# EAGLE library part TLC2272 (library op-amp)
OP-AMP - LinCMOS
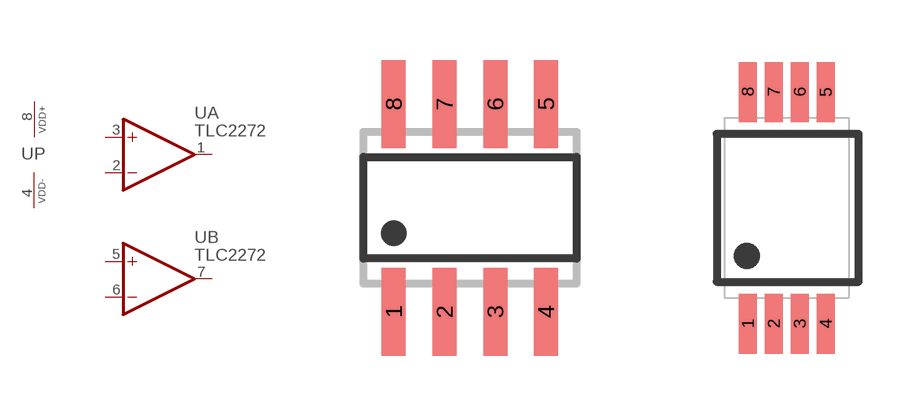
[diagram p92: symbol with the pads of SO08; footprints SO08, TSSOP8]

Designator prefix U; gates A=OPAMP_NV B=OPAMP_NV P=PWR_VDD+-

## TLC2272D  [SO08]
1  A:OUT  out
2  A:-IN  in
3  A:+IN  in
4  P:VDD-  pwr
5  B:+IN  in
6  B:-IN  in
7  B:OUT  out
8  P:VDD+  pwr

## TLC2272PW  [TSSOP8]
Pads as for SO08

## TLC2272P  [DIL08]
Pads as for SO08

## Footprint SO08 (pad centres in mm)
SMALL OUTLINE INTEGRATED CIRCUIT body 3.9 mm/JEDEC MS-012AA
smd 0.6 x 2.2: 1 -1.905,-2.6; 2 -0.635,-2.6; 3 0.635,-2.6; 4 1.905,-2.6; 5 1.905,2.6; 6 0.635,2.6; 7 -0.635,2.6; 8 -1.905,2.6

## Footprint TSSOP8 (pad centres in mm)
Thin Shrink Small Outline Plastic 8
smd 0.45 x 1.5: 1 -0.975,-2.9; 2 -0.325,-2.9; 3 0.325,-2.9; 4 0.975,-2.9; 5 0.975,2.9; 6 0.325,2.9; 7 -0.325,2.9; 8 -0.975,2.9

## Footprint DIL08 (pad centres in mm)
Dual In Line Package
drill 0.813 long: 1 -3.81,-3.81; 2 -1.27,-3.81; 3 1.27,-3.81; 4 3.81,-3.81; 5 3.81,3.81; 6 1.27,3.81; 7 -1.27,3.81; 8 -3.81,3.81